# Altium integrated library ArduinoR3Shield.IntLib: 1 symbol
Pins are listed as number, name and electrical type; pins without a type are passive.

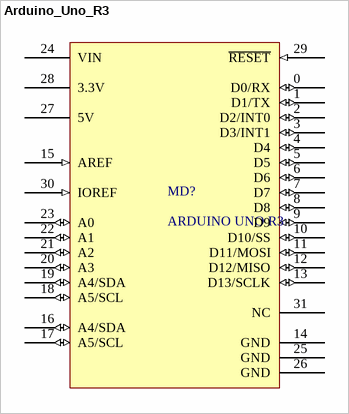
[diagram p0: symbol Arduino_Uno_R3]

## Arduino_Uno_R3
designator MD?, comment ARDUINO UNO R3
footprint ArduinoR3 (Arduino R3 Shield)
pins: 0 D0/RX (io), 1 D1/TX (io), 2 D2/INT0 (io), 3 D3/INT1 (io), 4 D4 (io), 5 D5 (io), 6 D6 (io), 7 D7 (io), 8 D8 (io), 9 D9 (io), 10 D10/SS (io), 11 D11/MOSI (io), 12 D12/MISO (io), 13 D13/SCLK (io), 14 GND (power), 15 AREF (in), 16 A4/SDA (io), 17 A5/SCL (io), 18 A5/SCL (io), 19 A4/SDA (io), 20 A3 (io), 21 A2 (io), 22 A1 (io), 23 A0 (io), 24 VIN (power), 25 GND (power), 26 GND (power), 27 5V (power), 28 3.3V (power), 29 ~{RESET} (in), 30 IOREF (in), 31 NC